# EAGLE library part BQ2057W_D_8 (library DLOCK_DAUGHTER_CARD_V0.2)
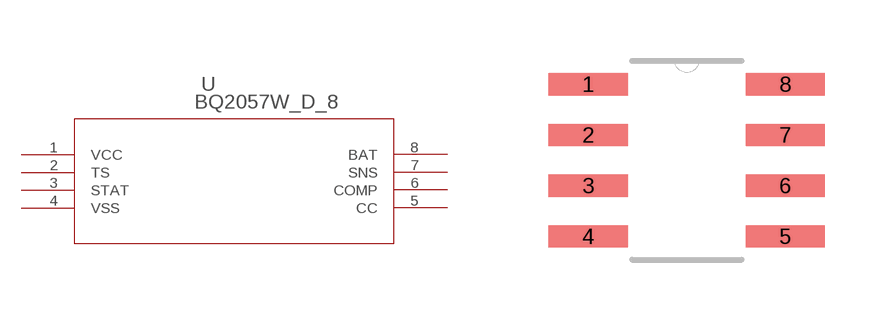
[diagram p8: symbol with the pads of D8; footprint D8]

Designator prefix U

## BQ2057W_D_8 (DATASHEETURL: http://www.ti.com/lit/gpn/BQ2057W; DESCRIPTION: Low Dropout Linear 2-cell Li-Ion Charge Controller with AutoCompTM, 8.4V; FAMILY_NAME: BATTERY CHARGE MANAGEMENT; GENERIC_PART_NUMBER: BQ2057W; INDUSTRY_STD_PKG_TYPE: SOIC; MANUFACTURER: Texas Instruments; PACKAGE_DESIGNATOR: D; PIN_COUNT: 8)  [D8]
1  VCC  pwr
2  TS  in
3  STAT  out
4  VSS  pwr
5  CC  out
6  COMP  in
7  SNS  in
8  BAT  in

## Footprint D8 (pad centres in mm)
smd 1.981 x 0.559: 1 -2.464,1.905; 2 -2.464,0.635; 3 -2.464,-0.635; 4 -2.464,-1.905; 5 2.464,-1.905; 6 2.464,-0.635; 7 2.464,0.635; 8 2.464,1.905